# Altium footprint library ESC_FOOTPRINTS.PcbLib: 26 footprints (part 2 of 2)
Each footprint in its own frame and in the unit in brackets; x right, y up, seen from the top. Pads: shape width x height; smd on the part's side, far side on the other; paste and mask are expansions set on the pad; w line width, h text height; cw(c..) or ccw(c..) is an arc to the next point about the centre after c.
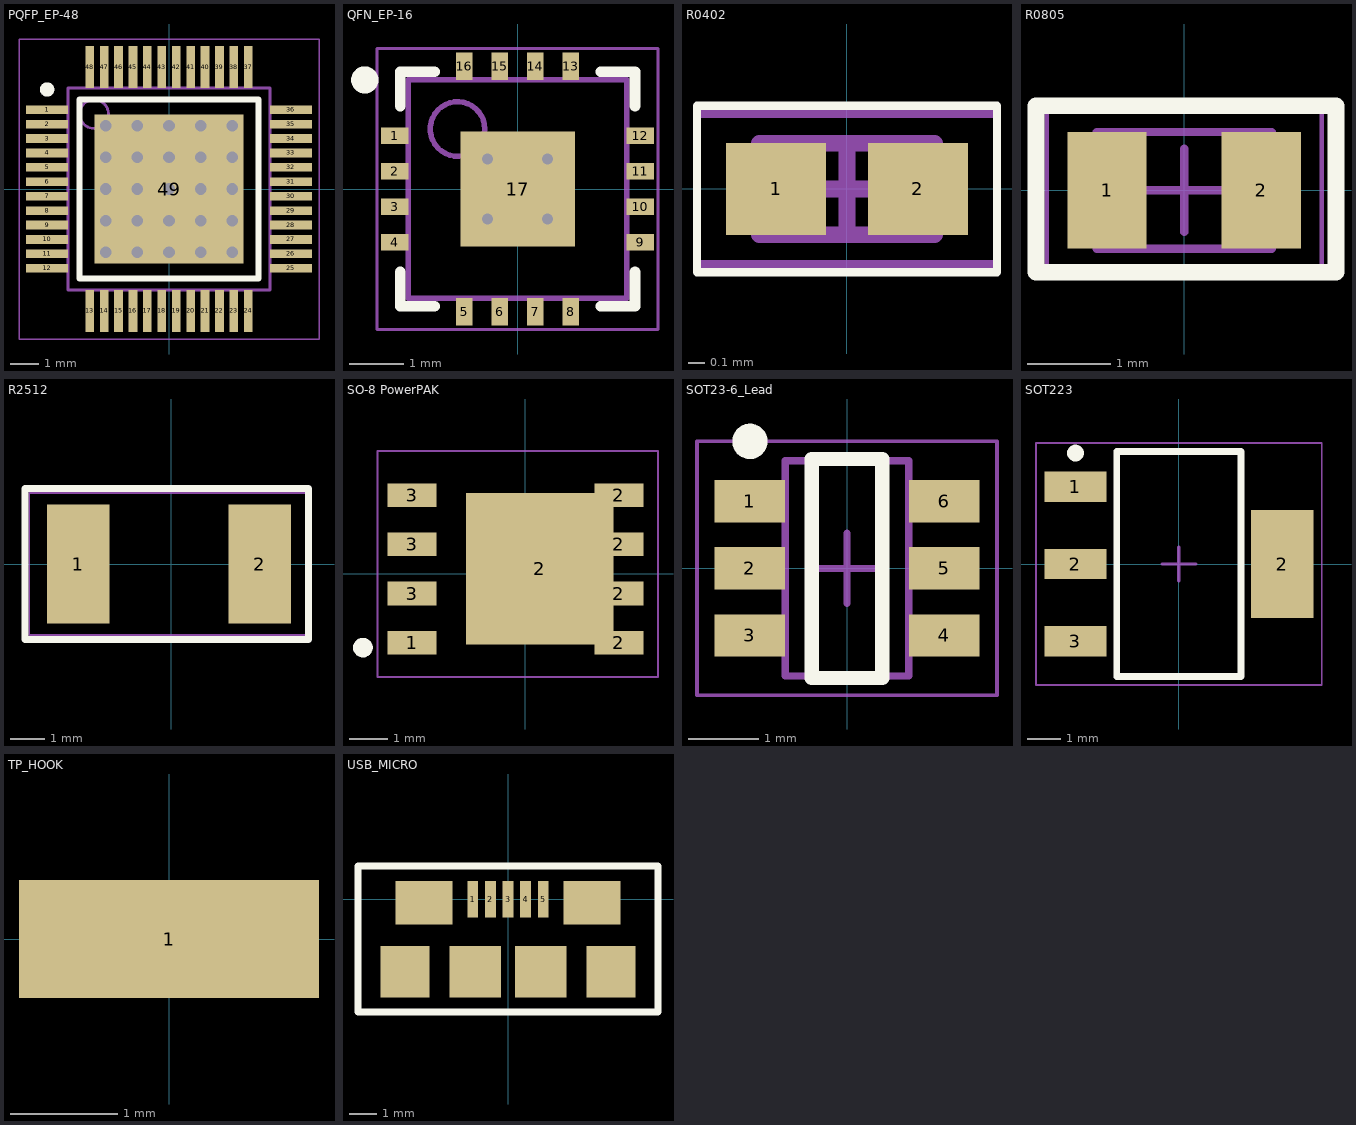
[diagram p1: the footprints below, top view; thin cyan lines are the x and y axes]

## PQFP_EP-48 [mm] "TSQFP, 48-Leads, Body 7.00x7.00mm, Pitch 0.50mm, Thermal Pad 5.17x5.17mm, IPC Medium Density"
height 1.2
pads (49):
  rect 1.45x0.3 smd: 1(-4.225,2.75) 2(-4.225,2.25) 3(-4.225,1.75) 4(-4.225,1.25) 5(-4.225,0.75) 6(-4.225,0.25) 7(-4.225,-0.25) 8(-4.225,-0.75) 9(-4.225,-1.25) 10(-4.225,-1.75) 11(-4.225,-2.25) 12(-4.225,-2.75) 25(4.225,-2.75) 26(4.225,-2.25) 27(4.225,-1.75) 28(4.225,-1.25) 29(4.225,-0.75) 30(4.225,-0.25) 31(4.225,0.25) 32(4.225,0.75) 33(4.225,1.25) 34(4.225,1.75) 35(4.225,2.25) 36(4.225,2.75)
  rect 0.3x1.45 smd: 13(-2.75,-4.225) 14(-2.25,-4.225) 15(-1.75,-4.225) 16(-1.25,-4.225) 17(-0.75,-4.225) 18(-0.25,-4.225) 19(0.25,-4.225) 20(0.75,-4.225) 21(1.25,-4.225) 22(1.75,-4.225) 23(2.25,-4.225) 24(2.75,-4.225) 37(2.75,4.225) 38(2.25,4.225) 39(1.75,4.225) 40(1.25,4.225) 41(0.75,4.225) 42(0.25,4.225) 43(-0.25,4.225) 44(-0.75,4.225) 45(-1.25,4.225) 46(-1.75,4.225) 47(-2.25,4.225) 48(-2.75,4.225)
  rect 5.17x5.17 smd: 49(0,0)
via 2.2,-2.2 diameter 0.7 hole 0.4
via 1.1,-2.2 diameter 0.7 hole 0.4
via 0,-2.2 diameter 0.7 hole 0.4
via -1.1,-2.2 diameter 0.7 hole 0.4
via -2.2,-2.2 diameter 0.7 hole 0.4
via 2.2,-1.1 diameter 0.7 hole 0.4
via 1.1,-1.1 diameter 0.7 hole 0.4
via 0,-1.1 diameter 0.7 hole 0.4
via -1.1,-1.1 diameter 0.7 hole 0.4
via -2.2,-1.1 diameter 0.7 hole 0.4
via 2.2,0 diameter 0.7 hole 0.4
via 1.1,0 diameter 0.7 hole 0.4
via 0,0 diameter 0.7 hole 0.4
via -1.1,0 diameter 0.7 hole 0.4
via -2.2,0 diameter 0.7 hole 0.4
via 2.2,1.1 diameter 0.7 hole 0.4
via 1.1,1.1 diameter 0.7 hole 0.4
via 0,1.1 diameter 0.7 hole 0.4
via -1.1,1.1 diameter 0.7 hole 0.4
via -2.2,1.1 diameter 0.7 hole 0.4
via 2.2,2.2 diameter 0.7 hole 0.4
via 1.1,2.2 diameter 0.7 hole 0.4
via 0,2.2 diameter 0.7 hole 0.4
via -1.1,2.2 diameter 0.7 hole 0.4
via -2.2,2.2 diameter 0.7 hole 0.4
Top Overlay:
  circle w0.25: c-4.225,3.45 r0.125
  lines w0.2: -3.1,-3.1 3.1,-3.1 3.1,3.1 -3.1,3.1 -3.1,-3.1
Mechanical 13:
  circle w0.1: c-2.6,2.6 r0.5
  lines w0.1: -3.5,-3.5 3.5,-3.5 3.5,3.5 -3.5,3.5 -3.5,-3.5
Mechanical 15:
  lines w0.05: -5.2,-5.2 5.2,-5.2 5.2,5.2 -5.2,5.2 -5.2,-5.2
  lines w0.1: -0.5,0 0.5,0 ; 0,-0.5 0,0.5
3D body "TSQFP50P900X900X120_HS-49N.step": height 1.2, standoff 0, extent -4.5,-4.5 4.5,4.5

## QFN_EP-16 [mm] "QFN, 16-Leads, Body 4.00x4.00mm, Pitch 0.65mm, Thermal Pad 2.10x2.10mm, IPC Medium Density"
height 0.8
pads (17):
  rect 0.5x0.3 smd: 1(-2.25,0.975) 2(-2.25,0.325) 3(-2.25,-0.325) 4(-2.25,-0.975) 9(2.25,-0.975) 10(2.25,-0.325) 11(2.25,0.325) 12(2.25,0.975)
  rect 0.3x0.5 smd: 5(-0.975,-2.25) 6(-0.325,-2.25) 7(0.325,-2.25) 8(0.975,-2.25) 13(0.975,2.25) 14(0.325,2.25) 15(-0.325,2.25) 16(-0.975,2.25)
  rect 2.1x2.1 smd: 17(0,0)
via -0.55,0.55 diameter 0.5 hole 0.2
via 0.55,0.55 diameter 0.5 hole 0.2
via -0.55,-0.55 diameter 0.5 hole 0.2
via 0.55,-0.55 diameter 0.5 hole 0.2
Top Overlay:
  circle w0.25: c-2.8,2 r0.125
  lines w0.2: -2.15,-1.525 -2.15,-2.15 -1.525,-2.15 ; -2.15,1.525 -2.15,2.15 -1.525,2.15 ; 1.525,-2.15 2.15,-2.15 2.15,-1.525 ; 1.525,2.15 2.15,2.15 2.15,1.525
Mechanical 13:
  circle w0.1: c-1.1,1.1 r0.5
  lines w0.1: -2,-2 -2,2 2,2 2,-2 -2,-2
Mechanical 15:
  lines w0.05: -2.575,-2.575 -2.575,2.575 2.575,2.575 2.575,-2.575 -2.575,-2.575
  lines w0.1: -0.5,0 0.5,0 ; 0,-0.5 0,0.5
3D body "QFN65P400X400X80_HS-17N.step": height 0.8, standoff 0, extent -2.05,-2.05 2.05,2.05

## R0402 [mm] "Chip Resistor, 2-Leads, Body 1.00x0.50mm, IPC Medium Density"
height 0.4
pads (2):
  rect 0.6x0.55 smd: 1(-0.425,0) 2(0.425,0)
Top Overlay:
  lines w0.05: -0.9,-0.5 -0.9,0.5 0.9,0.5 0.9,-0.5 -0.9,-0.5
Mechanical 13:
  lines w0.1: -0.525,-0.275 -0.525,0.275 0.525,0.275 0.525,-0.275 -0.525,-0.275
Mechanical 15:
  lines w0.05: -0.9,-0.45 -0.9,0.45 0.9,0.45 0.9,-0.45 -0.9,-0.45
  lines w0.1: -0.275,0 0.275,0 ; 0,-0.275 0,0.275
3D body "RESC1005X04N.step": height 0.4, standoff 0, extent -0.525,-0.275 0.525,0.275

## R0805 [mm] "Chip Resistor, 2-Leads, Body 2.00x1.25mm, IPC Medium Density"
height 0.6
pads (2):
  rect 0.95x1.4 smd: 1(-0.925,0) 2(0.925,0)
Top Overlay:
  lines w0.2: -1.778,-0.984 -1.778,1.016 1.822,1.016 1.822,-0.984 -1.778,-0.984
Mechanical 13:
  lines w0.1: -1.05,-0.7 1.05,-0.7 1.05,0.7 -1.05,0.7 -1.05,-0.7
Mechanical 15:
  lines w0.05: -1.65,-0.95 1.65,-0.95 1.65,0.95 -1.65,0.95 -1.65,-0.95
  lines w0.1: -0.5,0 0.5,0 ; 0,-0.5 0,0.5
3D body "RESC2012X06N.step": height 0.6, standoff 0, extent -1.05,-0.7 1.05,0.7

## R2512 [mm]
pads (2):
  rect 1.8x3.4 smd: 1(-2.66,0) 2(2.54,0)
Top Overlay:
  lines w0.2: -4.191,-2.159 3.937,-2.159 3.937,2.159 -4.191,2.159 -4.191,-2.159
Mechanical 15:
  lines w0.05: -4.064,-2.032 3.937,-2.032 3.937,2.032 -4.064,2.032 -4.064,-2.032

## SO-8 PowerPAK [mil]
pads (9):
  rect 50x24.02 smd: 1(-115,-70) 2(95.24,-70) 2(95.24,-20) 2(95.24,30) 2(95.24,80) 3(-115,-20) 3(-115,30) 3(-115,80)
  rect 150x153.94 smd: 2(15,5)
Top Overlay:
  circle w10: c-165,-75 r5
Mechanical 15:
  lines w1.97: -150,-105 -150,125 130,125 135,125 135,120 135,-105 -150,-105
  lines w3.94: -19.69,0 19.68,0 ; 0,-19.68 0,19.69
3D body "User Library-PowerPAK SO-8 (D).step": height 40.94, standoff 0, extent -126.06,-96.38 116.07,106.38

## SOT23-6_Lead [mm] "SOT23, 6-Leads, Body 2.90x2.80mm, Pitch 0.95mm, IPC Medium Density"
height 1.1
pads (6):
  rect 1x0.6 smd: 1(-1.375,0.95) 2(-1.375,0) 3(-1.375,-0.95) 4(1.375,-0.95) 5(1.375,0) 6(1.375,0.95)
Top Overlay:
  circle w0.25: c-1.375,1.8 r0.125
  lines w0.2: -0.5,-1.55 0.5,-1.55 0.5,1.55 -0.5,1.55 -0.5,-1.55
Mechanical 13:
  lines w0.1: -0.875,-1.525 -0.875,1.525 0.875,1.525 0.875,-1.525 -0.875,-1.525
Mechanical 15:
  lines w0.05: -2.125,-1.8 -2.125,1.8 2.125,1.8 2.125,-1.8 -2.125,-1.8
  lines w0.1: -0.5,0 0.5,0 ; 0,-0.5 0,0.5
3D body "SOT95P280X110-6N.step": height 1.1, standoff 0, extent -1.525,-1.525 1.525,1.525

## SOT223 [mm] "SOT223, 4-Leads, Body 6.50x7.00mm (avg), Pitch 2.30mm, IPC Medium Density"
height 1.63
pads (4):
  rect 1.85x0.9 smd: 1(-3.075,2.3) 2(-3.075,0) 3(-3.075,-2.3)
  rect 1.85x3.2 smd: 2(3.075,0)
Top Overlay:
  circle w0.25: c-3.075,3.3 r0.125
  lines w0.2: -1.85,-3.35 1.85,-3.35 1.85,3.35 -1.85,3.35 -1.85,-3.35
Mechanical 13:
  lines w0.1: -1.85,-3.35 1.85,-3.35 1.85,3.35 -1.85,3.35 -1.85,-3.35
Mechanical 15:
  lines w0.05: -4.25,-3.6 4.25,-3.6 4.25,3.6 -4.25,3.6 -4.25,-3.6
  lines w0.1: -0.5,0 0.5,0 ; 0,-0.5 0,0.5
3D body "SOT230P700X163-4N.step": height 1.63, standoff 0, extent -3.5,-3.35 3.5,3.35

## TP_HOOK [mm]
pads (1):
  rect 2.8x1.1 smd: 1(0,0)
3D body "keystone-PN5015.STEP": height 1.52, standoff 0, extent -1.562,-0.508 1.562,0.508

## USB_MICRO [mm]
pads (11):
  rect 0.4x1.35 smd: 1(-1.3,0) 3(0,0) 4(0.65,0) 5(1.3,0)
  rect 0.4x1.355 smd: 2(-0.65,0)
  rect 1.8x1.9 smd: ""(-3.8,-2.675) ""(3.8,-2.675)
  rect 2.1x1.6 smd: ""(-3.1,-0.125) ""(3.1,-0.125)
  rect 1.9x1.9 smd: ""(-1.2,-2.675) ""(1.2,-2.675)
Top Overlay:
  lines w0.254: -5.525,-4.15 -5.525,1.225 5.525,1.225 5.525,-4.15 -5.525,-4.15
3D body "micro_usb.stp": height 2.74, standoff -0.27, extent -3.956,-5.31 3.956,0.35